# Altium footprint library PDM_Headers_RC_2.0.PcbLib: 1 footprints
Each footprint in its own frame and in the unit in brackets; x right, y up, seen from the top. Pads: shape width x height; smd on the part's side, far side on the other; paste and mask are expansions set on the pad; w line width, h text height; cw(c..) or ccw(c..) is an arc to the next point about the centre after c.
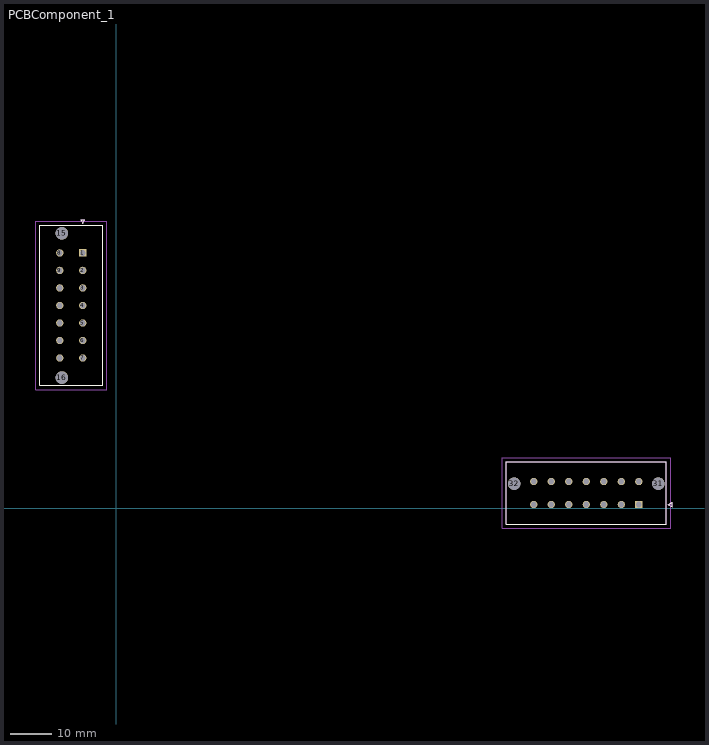
[diagram p0: the footprint, top view; thin cyan lines are the x and y axes]

## PCBComponent_1 [mm]
pads (32):
  rect 1.75x1.75 hole 1.4: 1(-8.001,61.301) 17(125.376,0.949)
  round 1.75 hole 1.4: 2(-8.001,57.101) 3(-8.001,52.901) 4(-8.001,48.701) 5(-8.001,44.501) 6(-8.001,40.301) 7(-8.001,36.101) 8(-13.501,61.301) 9(-13.501,57.101) 10(-13.501,52.901) 11(-13.501,48.701) 12(-13.501,44.501) 13(-13.501,40.301) 14(-13.501,36.101) 18(121.176,0.949) 19(116.976,0.949) 20(112.776,0.949) 21(108.576,0.949) 22(104.376,0.949) 23(100.176,0.949) 24(125.376,6.449) 25(121.176,6.449) 26(116.976,6.449) 27(112.776,6.449) 28(108.576,6.449) 29(104.376,6.449) 30(100.176,6.449)
  round 3 hole 3 unplated: 15(-13.001,66.001) 16(-13.001,31.401) 31(130.076,5.949) 32(95.476,5.949)
Top Overlay:
  lines w0.127: -18.251,29.501 -18.251,67.901 -3.251,67.901 -3.251,29.501 -18.251,29.501 ; -8.501,69.301 -8.001,68.301 -7.501,69.301 -8.501,69.301 ; 93.576,-3.801 93.576,11.199 131.976,11.199 131.976,-3.801 93.576,-3.801 ; 132.376,0.949 133.376,0.449 133.376,1.449 132.376,0.949
Mechanical 13:
  lines w0.127: -18.251,29.501 -18.251,67.901 -3.251,67.901 -3.251,29.501 -18.251,29.501 ; -8.501,69.301 -7.501,69.301 -8.001,68.301 -8.501,69.301 ; 93.576,-3.801 131.976,-3.801 131.976,11.199 93.576,11.199 93.576,-3.801 ; 132.376,0.949 133.376,0.449 133.376,1.449 132.376,0.949
Mechanical 15:
  lines w0.05: -19.251,28.501 -19.251,68.901 -2.251,68.901 -2.251,28.501 -19.251,28.501 ; 92.576,-4.801 132.976,-4.801 132.976,12.199 92.576,12.199 92.576,-4.801
3D body "15246142.stp": height 13.7, standoff -5, extent 93.576,-3.801 133.376,11.199
3D body "15246142.stp": height 13.7, standoff -5, extent -18.251,29.501 -3.251,69.301